# Altium integrated library Bourns Trimpot 3266.IntLib: 1 symbol
Pins are listed as number, name and electrical type; pins without a type are passive.

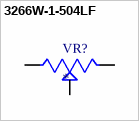
[diagram p0: symbol 3266W-1-504LF]

## 3266W-1-504LF
designator VR?
500 kOhms 0.25W, 1/4W PC Pins Through Hole Trimmer Potentiometer Cermet 12.0 Turn Top Adjustment; MP: 3266W-1-504LF; MF: Bourns; Digi-Key_Part_Number: 3266W-504LF-ND; Value: *; Check_prices: https://www.snapeda.com/parts/3266W-1-504LF/Bourns/view-part/?ref=eda; Purchase-URL: https://pricing.snapeda.com/search/part/3266W-1-504LF/?ref=eda; SnapEDA_Link: https://www.snapeda.com/parts/3266W-1-504LF/Bourns/view-part/?ref=snap; Package: TO-218 Bourns
footprint TRIM_3266W-1-504LF
pins: 1 CCW, 2 WIPER, 3 CW